# Altium footprint library Diode_SunLED_XZMDKCBDDG45S-9_eec_MFG.PcbLib: 1 footprints
Each footprint in its own frame and in the unit in brackets; x right, y up, seen from the top. Pads: shape width x height; smd on the part's side, far side on the other; paste and mask are expansions set on the pad; w line width, h text height; cw(c..) or ccw(c..) is an arc to the next point about the centre after c.
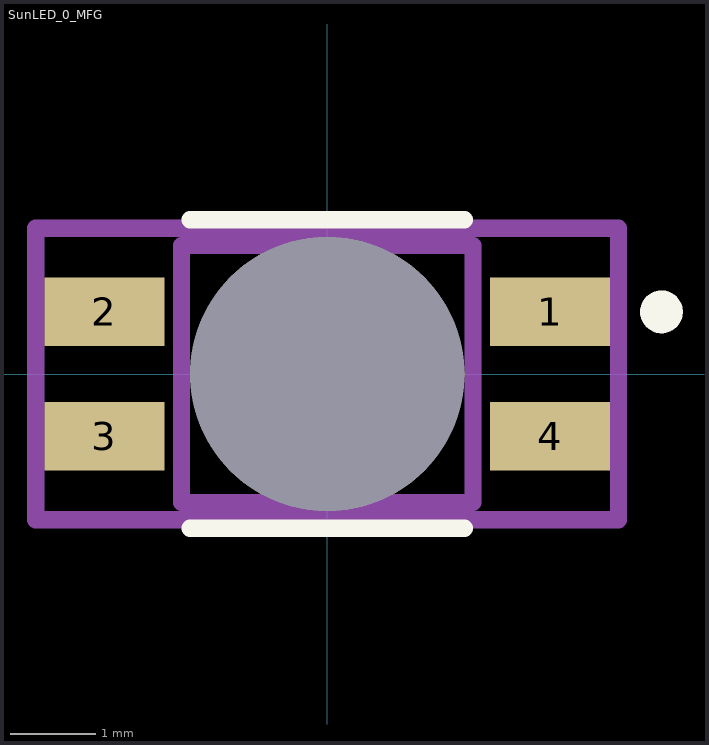
[diagram p0: the footprint, top view; thin cyan lines are the x and y axes]

## SunLED_0_MFG [mm]
pads (5):
  rect 1.4x0.8 smd paste+0 mask+0: 1(2.6,0.725) 2(-2.6,0.725) 3(-2.6,-0.725) 4(2.6,-0.725)
  round 3.2 hole 3.2 unplated paste-1000 mask+0: ""(0,0)
Top Overlay:
  circle w0.25: c3.9,0.725 r0.125
  lines w0.2: -1.6,-1.8 1.6,-1.8 ; -1.6,1.8 1.6,1.8
Mechanical 10:
  lines w0.2: -3.4,-1.7 3.4,-1.7 3.4,1.7 -3.4,1.7 -3.4,-1.7
  text ".Designator" at 0,0 h1
Mechanical 12:
  lines w0.2: -1.7,-1.5 1.7,-1.5 1.7,1.5 -1.7,1.5 -1.7,-1.5
Mechanical 15:
  lines w0.1: -0.51,0 0.51,0 ; 0,-0.51 0,0.51
  lines w0.2: -3.4,-1.7 3.4,-1.7 3.4,1.7 -3.4,1.7 -3.4,-1.7
3D body "Diode_SunLED_XZMDKCBDDG45S-9_eec.STEP": height 0.25, standoff 0, extent -3.4,-1.7 3.4,1.7